# EAGLE library part DSPIC30F4011-20I/ML (library Microchip_By_element14_Batch_1)
16-bit Digital Signal Controllers
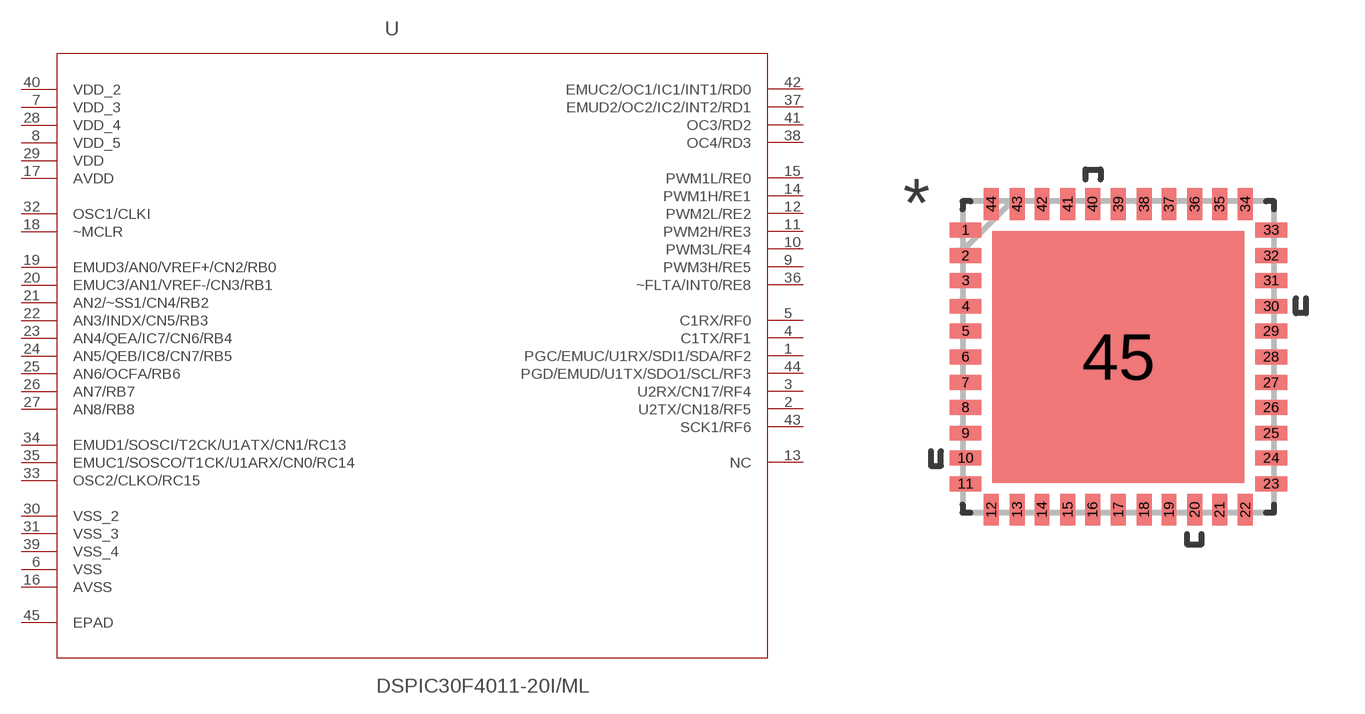
[diagram p297: symbol with the pads of QFN65P800X800X120-44N; footprint QFN65P800X800X120-44N]

Designator prefix -

## DSPIC30F4011-20I/ML (MPN: DSPIC30F4011-20I/ML; OC_FARNELL: 1439752; OC_NEWARK: 56J7039; PACKAGE: PQFN-44; SUPPLIER: Microchip)  [QFN65P800X800X120-44N]
1  PGC/EMUC/U1RX/SDI1/SDA/RF2
2  U2TX/CN18/RF5
3  U2RX/CN17/RF4
4  C1TX/RF1
5  C1RX/RF0
6  VSS  pwr
7  VDD_3  pwr
8  VDD_5  pwr
9  PWM3H/RE5
10  PWM3L/RE4
11  PWM2H/RE3
12  PWM2L/RE2
13  NC  nc
14  PWM1H/RE1
15  PWM1L/RE0
16  AVSS  pwr
17  AVDD  pwr
18  ~MCLR  in
19  EMUD3/AN0/VREF+/CN2/RB0
20  EMUC3/AN1/VREF-/CN3/RB1
21  AN2/~SS1/CN4/RB2
22  AN3/INDX/CN5/RB3
23  AN4/QEA/IC7/CN6/RB4
24  AN5/QEB/IC8/CN7/RB5
25  AN6/OCFA/RB6
26  AN7/RB7
27  AN8/RB8
28  VDD_4  pwr
29  VDD  pwr
30  VSS_2  pwr
31  VSS_3  pwr
32  OSC1/CLKI  in
33  OSC2/CLKO/RC15
34  EMUD1/SOSCI/T2CK/U1ATX/CN1/RC13
35  EMUC1/SOSCO/T1CK/U1ARX/CN0/RC14
36  ~FLTA/INT0/RE8
37  EMUD2/OC2/IC2/INT2/RD1
38  OC4/RD3
39  VSS_4  pwr
40  VDD_2  pwr
41  OC3/RD2
42  EMUC2/OC1/IC1/INT1/RD0
43  SCK1/RF6
44  PGD/EMUD/U1TX/SDO1/SCL/RF3
45  EPAD  pas

## Footprint QFN65P800X800X120-44N (pad centres in mm)
smd 0.813 x 0.381: 1 -3.912,3.251; 2 -3.912,2.591; 3 -3.912,1.956; 4 -3.912,1.295; 5 -3.912,0.66; 6 -3.912,0; 7 -3.912,-0.66; 8 -3.912,-1.295; 9 -3.912,-1.956; 10 -3.912,-2.591; 11 -3.912,-3.251; 23 3.912,-3.251; 24 3.912,-2.591; 25 3.912,-1.956; 26 3.912,-1.295; 27 3.912,-0.66; 28 3.912,0; 29 3.912,0.66; 30 3.912,1.295; 31 3.912,1.956; 32 3.912,2.591; 33 3.912,3.251
smd 0.381 x 0.813: 12 -3.251,-3.912; 13 -2.591,-3.912; 14 -1.956,-3.912; 15 -1.295,-3.912; 16 -0.66,-3.912; 17 0,-3.912; 18 0.66,-3.912; 19 1.295,-3.912; 20 1.956,-3.912; 21 2.591,-3.912; 22 3.251,-3.912; 34 3.251,3.912; 35 2.591,3.912; 36 1.956,3.912; 37 1.295,3.912; 38 0.66,3.912; 39 0,3.912; 40 -0.66,3.912; 41 -1.295,3.912; 42 -1.956,3.912; 43 -2.591,3.912; 44 -3.251,3.912
smd 6.452 x 6.452: 45 0,0